# EAGLE library part FFC_8_1734839-8 (library dpx-con-CUSTOM)
FPC receptacle, 0.5mm, SMT, R/A, 8P Source: Datasheet
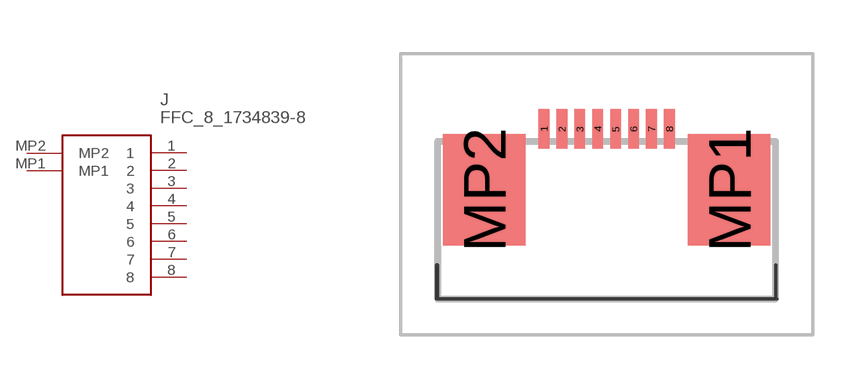
[diagram p11: symbol with the pads of 17348398; footprint 17348398]

Designator prefix J

## FFC_8_1734839-8 (DESCRIPTION: FPC receptacle, 0.5mm, SMT, R/A, 8P; HEIGHT: 2.05mm; MANUFACTURER_NAME: TE Connectivity; MANUFACTURER_PART_NUMBER: 1734839-8; MOUSER_PART_NUMBER: 571-1734839-8; MOUSER_PRICE-STOCK: https://www.mouser.co.uk/ProductDetail/TE-Connectivity/1734839-8?qs=n3Ybsy482HHUpt4KP2320g%3D%3D)  [17348398]
1  1
2  2
3  3
4  4
5  5
6  6
7  7
8  8
MP1  MP1
MP2  MP2

## Footprint 17348398 (pad centres in mm)
1734839-8-1
smd 0.3 x 1.1: 1 -1.75,0.15; 2 -1.25,0.15; 3 -0.75,0.15; 4 -0.25,0.15; 5 0.25,0.15; 6 0.75,0.15; 7 1.25,0.15; 8 1.75,0.15
smd 2.3 x 3.1: MP1 3.42,-1.55; MP2 -3.42,-1.55